# EAGLE library part FT2232_CON (library _block)
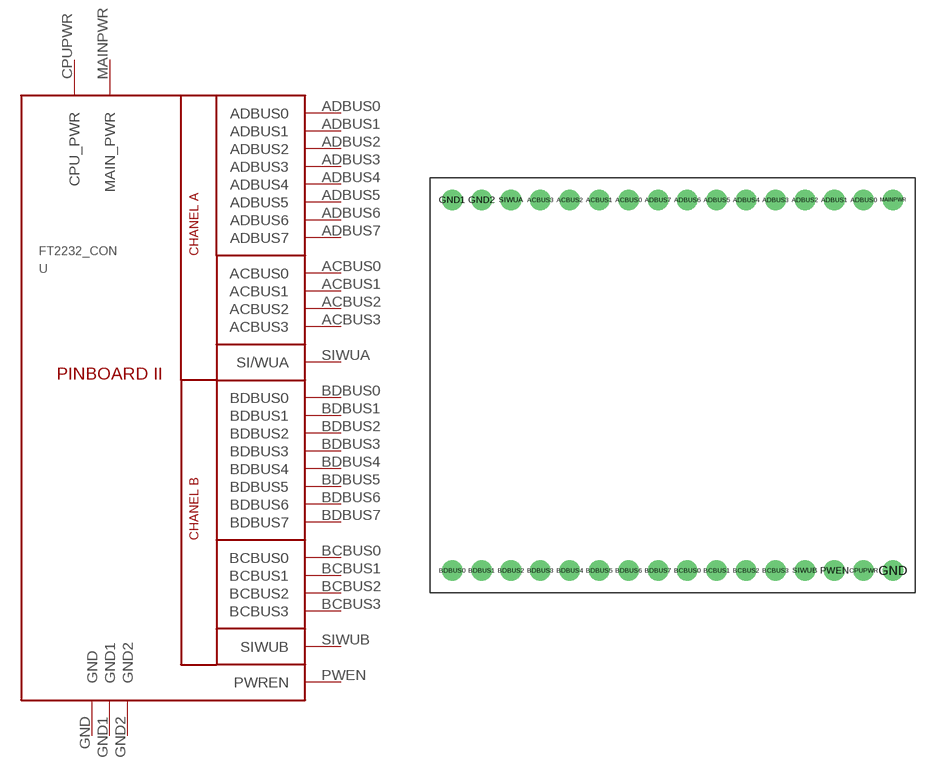
[diagram p0: symbol with the pads of FT_SHIELD; footprint FT_SHIELD]

Designator prefix -

## FT2232_CON  [FT_SHIELD]
ACBUS0  ACBUS0
ACBUS1  ACBUS1
ACBUS2  ACBUS2
ACBUS3  ACBUS3
ADBUS0  ADBUS0
ADBUS1  ADBUS1
ADBUS2  ADBUS2
ADBUS3  ADBUS3
ADBUS4  ADBUS4
ADBUS5  ADBUS5
ADBUS6  ADBUS6
ADBUS7  ADBUS7
BCBUS0  BCBUS0
BCBUS1  BCBUS1
BCBUS2  BCBUS2
BCBUS3  BCBUS3
BDBUS0  BDBUS0
BDBUS1  BDBUS1
BDBUS2  BDBUS2
BDBUS3  BDBUS3
BDBUS4  BDBUS4
BDBUS5  BDBUS5
BDBUS6  BDBUS6
BDBUS7  BDBUS7
CPUPWR  CPU_PWR
GND  GND
GND1  GND1
GND2  GND2
MAINPWR  MAIN_PWR
PWEN  PWREN
SIWUA  SI/WUA
SIWUB  SIWUB

## Footprint FT_SHIELD (pad centres in mm)
drill 1 pad 1.778 round: ACBUS0 15.24,32.004; ACBUS1 12.7,32.004; ACBUS2 10.16,32.004; ACBUS3 7.62,32.004; ADBUS0 35.56,32.004; ADBUS1 33.02,32.004; ADBUS2 30.48,32.004; ADBUS3 27.94,32.004; ADBUS4 25.4,32.004; ADBUS5 22.86,32.004; ADBUS6 20.32,32.004; ADBUS7 17.78,32.004; BCBUS0 20.32,0; BCBUS1 22.86,0; BCBUS2 25.4,0; BCBUS3 27.94,0; BDBUS0 0,0; BDBUS1 2.54,0; BDBUS2 5.08,0; BDBUS3 7.62,0; BDBUS4 10.16,0; BDBUS5 12.7,0; BDBUS6 15.24,0; BDBUS7 17.78,0; CPUPWR 35.56,0; GND 38.1,0; GND1 0,32.004; GND2 2.54,32.004; MAINPWR 38.1,32.004; PWEN 33.02,0; SIWUA 5.08,32.004; SIWUB 30.48,0